# Altium schematic symbol library Nhi.SchLib: 24 symbols
Pins are listed as number, name and electrical type; pins without a type are passive.

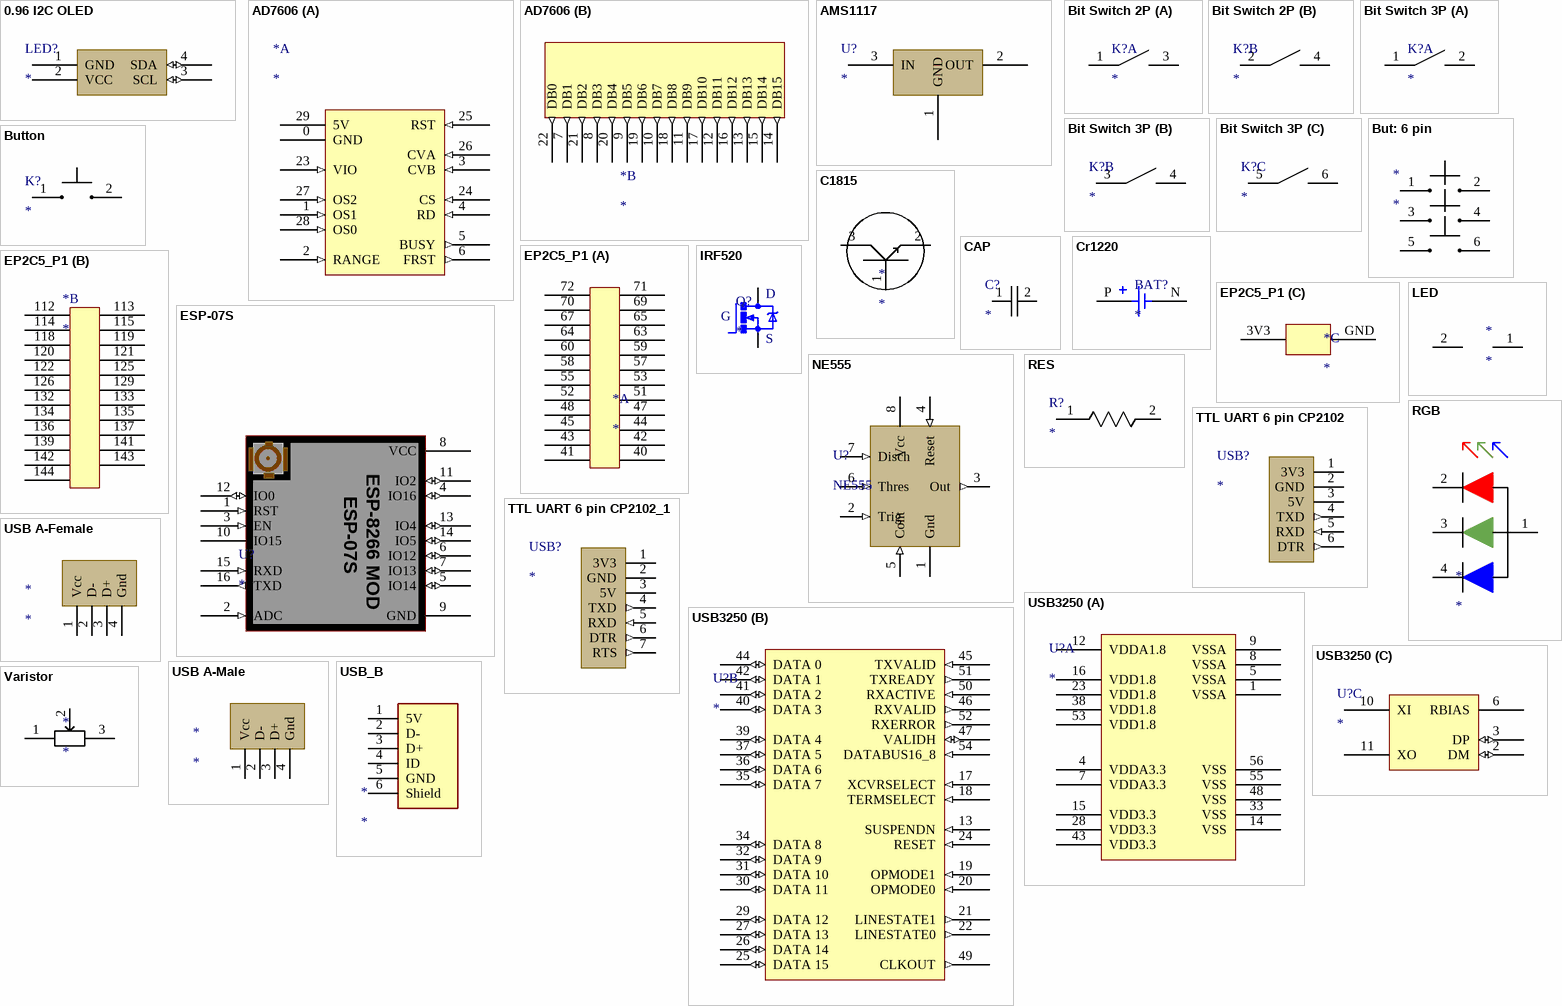
[diagram p0: symbols 0.96 I2C OLED to Varistor]

## 0.96 I2C OLED
designator LED?
footprint 0.96 I2C OLED
pins: 1 GND (power), 2 VCC (power), 3 SCL (io), 4 SDA (io)

## AD7606
designator *
footprint AD7606
part A pins: 0 GND (power), 1 OS1 (in), 2 RANGE (in), 3 CVB (in), 4 RD (in), 5 BUSY (out), 6 FRST (out), 23 VIO (in) "Logic reference voltage", 24 CS (in), 25 RST (in), 26 CVA (in), 27 OS2 (in), 28 OS0 (in), 29 5V (power)
part B pins: 7 DB1 (out), 8 DB3 (out), 9 DB5 (out), 10 DB7 (out), 11 DB9 (out), 12 DB11 (out), 13 DB13 (out), 14 DB15 (out), 15 DB14 (out), 16 DB12 (out), 17 DB10 (out), 18 DB8 (out), 19 DB6 (out), 20 DB4 (out), 21 DB2 (out), 22 DB0 (out)

## AMS1117
designator U?
footprint ASM1117 (SOT223, 4-Leads, Body 6,50x7,00mm (avg), Pitch 2,30mm, IPC Medium Density)
pins: 1 GND (power), 2 OUT (power), 3 IN (power)

## Bit Switch 2P
designator K?
footprint Bit Switch 2p SMD
part A pins: 1 *, 3 *
part B pins: 2 *, 4 *

## Bit Switch 3P
designator K?
footprint Bit Switch 3P SMD
part A pins: 1 *, 2 *
part B pins: 3 *, 4 *
part C pins: 5 *, 6 *

## But: 6 pin
designator *
footprint BUT: PB22E07 (DPDT, 7x7)
pins: 1, 2, 3, 4, 5, 6

## Button
designator K?
footprint BUT: 6x6 (Leaded Tactile Button 6x6)
pins: 1, 2

## C1815
designator *
footprint SOT23_132 (SOT23, 3-Leads, Body 3,0x2,6mm (max), Pitch 0,95mm, IPC Medium Density)
pins: 1 Base, 2 Base, 3 Base

## CAP
designator C?
footprint CH0805C (Chip Capacitor, 2-Leads, Body 2,00x1,20mm, IPC Medium Density)
pins: 1, 2

## Cr1220
designator BAT?
footprint CR1220
pins: N, P

## EP2C5_P1
designator *
footprint EP2C5_P1_3
part A pins: 40, 41, 42, 43, 44, 45, 47, 48, 51, 52, 53, 55, 57, 58, 59, 60, 63, 64, 65, 67, 69, 70, 71, 72
part B pins: 112, 113, 114, 115, 118, 119, 120, 121, 122, 125, 126, 129, 132, 133, 134, 135, 136, 137, 139, 141, 142, 143, 144
part C pins: 3V3, GND

## ESP-07S
designator U?
footprint ESP-07S
pins: 1 RST (in), 2 ADC (in) "Analog input pin, cannot be configured as output", 3 EN (in), 4 IO16 (io) "HIGH at boot, used to wake up from deep sleep", 5 IO14 (io), 6 IO12 (io), 7 IO13 (io), 8 VCC (power), 9 GND (power), 10 IO15 "Required for boot, boot fails if pulled HIGH", 11 IO2 (io) "HIGH at boot, boot fails if pulled LOW", 12 IO0 (io) "connected to FLASH button, boot fails if pulled LOW", 13 IO4 (io), 14 IO5 (io), 15 RXD (in), 16 TXD (out)
text: ESP-8266 MOD

## IRF520
designator Q?
N-Channel 100 V 9.2A (Tc) 3.7W (Ta), 60W (Tc) Surface Mount D2PAK; MP: IRF520; MF: Vishay Siliconix; Check_prices: https://www.snapeda.com/parts/IRF520/Vishay+Siliconix/view-part/?ref=eda; Value: *; Availability: In Stock; Price: None; Package: TO-220-3 Vishay; SnapEDA_Link: https://www.snapeda.com/parts/IRF520/Vishay+Siliconix/view-part/?ref=snap; Purchase-URL: https://pricing.snapeda.com/search/part/IRF520/?ref=eda
footprint TO220BV
pins: D, G, S

## LED
designator *
footprint 1210
pins: 1, 2

## NE555
designator U?
footprint SOP-08
pins: 1 Gnd (power), 2 Trig (in), 3 Out (out), 4 Reset (in), 5 Cont (in), 6 Thres (in), 7 Disch (in), 8 Vcc (power)

## RES
designator R?
footprint CH0805R
pins: 1, 2

## RGB
designator *
footprint RGB 0603
pins: 1 Anode, 2 R, 3 G, 4 B

## TTL UART 6 pin CP2102
designator USB?
footprint TTL UART 6 pin CP2102 (PBS-6)
pins: 1 3V3 (power), 2 GND (power), 3 5V (power), 4 TXD (out), 5 RXD (in), 6 DTR (out)

## TTL UART 6 pin CP2102_1
designator USB?
footprint TTL UART 6 pin CP2102 - duplicate (PBS-6)
pins: 1 3V3 (power), 2 GND (power), 3 5V (power), 4 TXD (out), 5 RXD (in), 6 DTR (out), 7 RTS (out)

## USB3250
designator U?
footprint QFN56_PINOUT
part A pins: 1 VSSA (power), 4 VDDA3.3 (power), 5 VSSA (power), 7 VDDA3.3 (power), 8 VSSA (power), 9 VSSA (power), 12 VDDA1.8 (power), 14 VSS (power), 15 VDD3.3 (power), 16 VDD1.8 (power), 23 VDD1.8 (power), 28 VDD3.3 (power), 33 VSS (power), 38 VDD1.8 (power), 43 VDD3.3 (power), 48 VSS (power), 53 VDD1.8 (power), 55 VSS (power), 56 VSS (power)
part B pins: 13 SUSPENDN (in), 17 XCVRSELECT (in), 18 TERMSELECT (in), 19 OPMODE1 (in), 20 OPMODE0 (in), 21 LINESTATE1 (out), 22 LINESTATE0 (out), 24 RESET (in), 25 DATA 15 (io), 26 DATA 14 (io), 27 DATA 13 (io), 29 DATA 12 (io), 30 DATA 11 (io), 31 DATA 10 (io), 32 DATA 9 (io), 34 DATA 8 (io), 35 DATA 7 (io), 36 DATA 6 (io), 37 DATA 5 (io), 39 DATA 4 (io), 40 DATA 3 (io), 41 DATA 2 (io), 42 DATA 1 (io), 44 DATA 0 (io), 45 TXVALID (in), 46 RXVALID (out), 47 VALIDH (io), 49 CLKOUT (out), 50 RXACTIVE (in), 51 TXREADY (out), 52 RXERROR (out), 54 DATABUS16_8 (in)
part C pins: 2 DM (io), 3 DP (io), 6 RBIAS, 10 XI, 11 XO

## USB A-Female
designator *
footprint CON: USB-A
pins: 1 Vcc, 2 D-, 3 D+, 4 Gnd

## USB A-Male
designator *
footprint USB type A (https://www.oupiin.com/download.html?act=gTData&dID=4517)
footprint USB A Male
pins: 1 Vcc, 2 D-, 3 D+, 4 Gnd

## USB_B
designator *
footprint USB_B
footprint USB_B1
pins: 1 5V (power), 2 D-, 3 D+, 4 ID, 5 GND (power), 6 Shield

## Varistor
designator *
footprint Wheel Varistor
pins: 1, 2, 3